# EAGLE library part H11L1S (library pimoroni-ics)
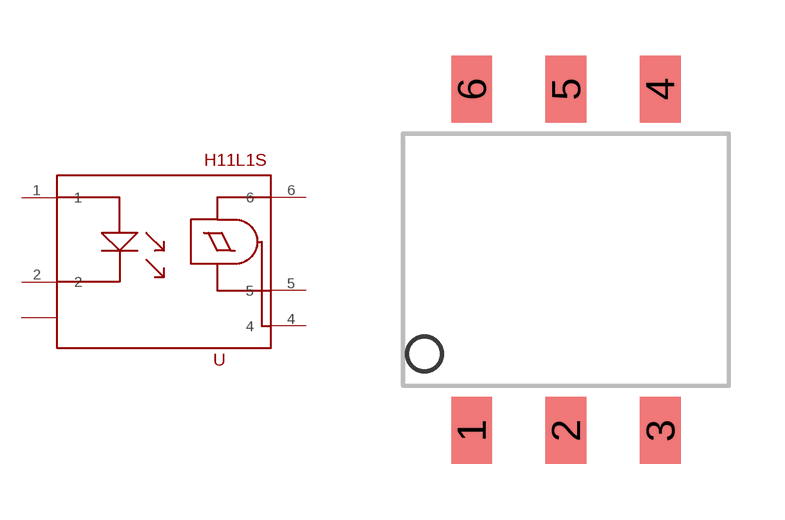
[diagram p148: symbol with the pads of DIP6-SMT; footprint DIP6-SMT]

Designator prefix -

## H11L1S  [DIP6-SMT]
1  1
2  2
3  NC
4  4
5  5
6  6

## Footprint DIP6-SMT (pad centres in mm)
smd 1.1 x 1.8: 1 -2.54,-4.6; 2 0,-4.6; 3 2.54,-4.6; 4 2.54,4.6; 5 0,4.6; 6 -2.54,4.6